# Altium footprint library FootprintsPersonals.PcbLib: 152 footprints (part 8 of 10)
Each footprint in its own frame and in the unit in brackets; x right, y up, seen from the top. Pads: shape width x height; smd on the part's side, far side on the other; paste and mask are expansions set on the pad; w line width, h text height; cw(c..) or ccw(c..) is an arc to the next point about the centre after c.
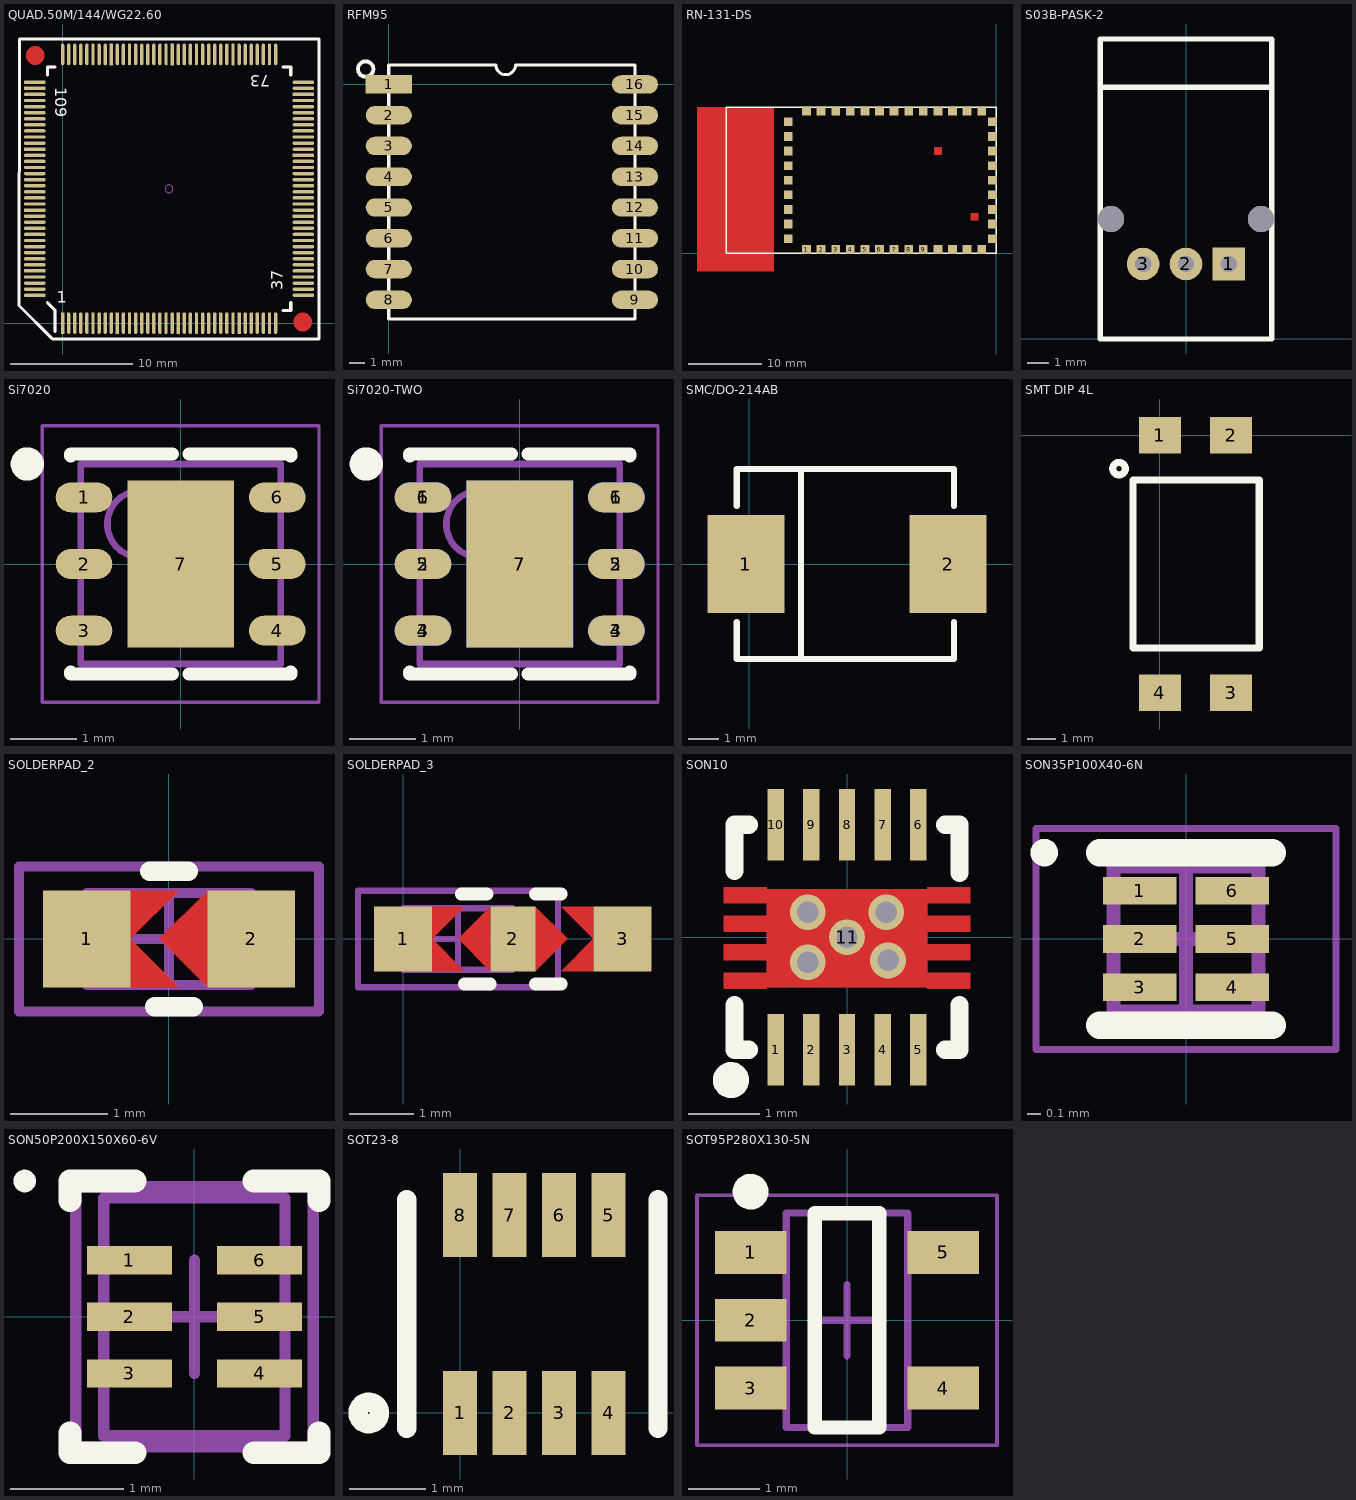
[diagram p7: the footprints below, top view; thin cyan lines are the x and y axes]

## QUAD.50M/144/WG22.60 [mil]
pads (144):
  rect 11x70 smd: 1(0,0) 10(177.3,0) 20(374.3,0) 30(571.3,0) 80(551.6,869.5) 90(354.6,869.5) 100(157.6,869.5)
  oval 11x70 smd: 2(19.7,0) 3(39.4,0) 4(59.1,0) 5(78.8,0) 6(98.5,0) 7(118.2,0) 8(137.9,0) 9(157.6,0) 11(197,0) 12(216.7,0) 13(236.4,0) 14(256.1,0) 15(275.8,0) 16(295.5,0) 17(315.2,0) 18(334.9,0) 19(354.6,0) 21(394,0) 22(413.7,0) 23(433.4,0) 24(453.1,0) 25(472.8,0) 26(492.5,0) 27(512.2,0) 28(531.9,0) 29(551.6,0) 31(591,0) 32(610.7,0) 33(630.4,0) 34(650.1,0) 35(669.8,0) 36(689.5,0) 73(689.5,869.5) 74(669.8,869.5) 75(650.1,869.5) 76(630.4,869.5) 77(610.7,869.5) 78(591,869.5) 79(571.3,869.5) 81(531.9,869.5) 82(512.2,869.5) 83(492.5,869.5) 84(472.8,869.5) 85(453.1,869.5) 86(433.4,869.5) 87(413.7,869.5) 88(394,869.5) 89(374.3,869.5) 91(334.9,869.5) 92(315.2,869.5) 93(295.5,869.5) 94(275.8,869.5) 95(256.1,869.5) 96(236.4,869.5) 97(216.7,869.5) 98(197,869.5) 99(177.3,869.5) 101(137.9,869.5) 102(118.2,869.5) 103(98.5,869.5) 104(78.8,869.5) 105(59.1,869.5) 106(39.4,869.5) 107(19.7,869.5) 108(0,869.5)
  oval 70x11 smd: 37(779.5,90) 38(779.5,109.7) 39(779.5,129.4) 41(779.5,168.8) 42(779.5,188.5) 43(779.5,208.2) 44(779.5,227.9) 45(779.5,247.6) 46(779.5,267.3) 47(779.5,287) 48(779.5,306.7) 49(779.5,326.4) 51(779.5,365.8) 52(779.5,385.5) 53(779.5,405.2) 54(779.5,424.9) 55(779.5,444.6) 56(779.5,464.3) 57(779.5,484) 58(779.5,503.7) 59(779.5,523.4) 61(779.5,562.8) 62(779.5,582.5) 63(779.5,602.2) 64(779.5,621.9) 65(779.5,641.6) 66(779.5,661.3) 67(779.5,681) 68(779.5,700.7) 69(779.5,720.4) 71(779.5,759.8) 72(779.5,779.5) 109(-90,779.5) 111(-90,740.1) 112(-90,720.4) 113(-90,700.7) 114(-90,681) 115(-90,661.3) 116(-90,641.6) 117(-90,621.9) 118(-90,602.2) 119(-90,582.5) 121(-90,543.1) 122(-90,523.4) 123(-90,503.7) 124(-90,484) 125(-90,464.3) 126(-90,444.6) 127(-90,424.9) 128(-90,405.2) 129(-90,385.5) 131(-90,346.1) 132(-90,326.4) 133(-90,306.7) 134(-90,287) 135(-90,267.3) 136(-90,247.6) 137(-90,227.9) 138(-90,208.2) 139(-90,188.5) 141(-90,149.1) 142(-90,129.4) 143(-90,109.7) 144(-90,90)
  rect 70x11 smd: 40(779.5,149.1) 50(779.5,346.1) 60(779.5,543.1) 70(779.5,740.1) 110(-90,759.8) 120(-90,562.8) 130(-90,365.8) 140(-90,168.8)
Top Layer:
  lines w60: -89,865 -89,867 ; 778,2 778,4
Top Overlay:
  lines w10: -49,66 -24,41 -24,-27.8 ; -49,803.5 -49,828.5 -24,828.5 ; 713.5,41 738.5,41 738.5,66 ; 713.5,828.5 738.5,828.5 738.5,803.5 ; -141,57 -140,919 830,919 830,-51 -33,-51 -141,57
  text "73" at 672.48,802.83 h37.5
  text "109" at -23.43,763.87 h37.5
  text "37" at 712.83,106.92 h37.5
  text ".Designator" at -63.98,-102.36 h37.5
  text "1" at -19.18,66.58 h37.5
Top Solder:
  lines w70: -89,865 -89,867 ; 778,2 778,4
Mechanical 1:
  lines w10: -49,66 -24,41 -24,-27.8 ; -49,803.5 -49,828.5 -24,828.5 ; 713.5,41 738.5,41 738.5,66 ; 713.5,828.5 738.5,828.5 738.5,803.5
  text "109" at -23.43,763.87 h37.5
  text "73" at 672.48,802.83 h37.5
  text ".Designator" at 280.15,401.58 h37.5
  text ".Comment" at 262.37,466 h37.5
  text ".Pattern" at 179.93,353.83 h22.5
  text "1" at -19.18,66.58 h37.5
  text "37" at 712.83,106.92 h37.5
Mechanical 3:
  lines w4: 332.2,434.7 cw(c344.7,434.7) 344.7,447.2 cw(c344.7,434.7) 357.2,434.7 cw(c344.7,434.7) 344.7,422.2 cw(c344.7,434.7) 332.2,434.7

## RFID_ANTENNA [mm]

## RFM95 [mm]
pads (16):
  rect 3x1.2 smd: 1(0,0)
  oval 3x1.2 smd: 2(0,-2) 3(0,-4) 4(0,-6) 5(0,-8) 6(0,-10) 7(0,-12) 8(0,-14) 9(16,-14) 10(16,-12) 11(16,-10) 12(16,-8) 13(16,-6) 14(16,-4) 15(16,-2) 16(16,0)
Top Overlay:
  circle w0.254: c-1.5,1 r0.5
  lines w0.2: 0,-15.24 0,1.27 6.965,1.27 ccw(c7.6,1.27) 8.235,1.27 16,1.27 16,-15.24 0,-15.24
3D body: height 1.8, standoff 0, extent 0,-15 16,1

## RN-131-DS [mm]
pads (44):
  rect 1.2x1.2 smd: 1(-26,0.5) 2(-24,0.5) 3(-22,0.5) 4(-20,0.5) 5(-18,0.5) 6(-16,0.5) 7(-14,0.5) 8(-12,0.5) 9(-10,0.5) 10(-8,0.5) 11(-6,0.5) 12(-4,0.5) 13(-2,0.5) 14(-0.5,2) 15(-0.5,4) 16(-0.5,6) 17(-0.5,8) 18(-0.5,10) 19(-0.5,12) 20(-0.5,14) 21(-0.5,16) 22(-0.5,18) 23(-2,19.5) 24(-4,19.5) 25(-6,19.5) 26(-8,19.5) 27(-10,19.5) 28(-12,19.5) 29(-14,19.5) 30(-16,19.5) 31(-18,19.5) 32(-20,19.5) 33(-22,19.5) 34(-24,19.5) 35(-26,19.5) 36(-28.5,18) 37(-28.5,16) 38(-28.5,14) 39(-28.5,12) 40(-28.5,10) 41(-28.5,8) 42(-28.5,6) 43(-28.5,4) 44(-28.5,2)
Top Layer:
  pour cut-out: -3.5,5.5 -2.5,5.5 -2.5,4.5 -3.5,4.5
  pour cut-out: -8.5,14.5 -7.5,14.5 -7.5,13.5 -8.5,13.5
  pour cut-out: -30.5,20 -30.5,-2.5 -41,-2.5 -41,20
Top Overlay:
  lines w0.254: -37,0 0,0 0,20 -37,20 -37,0

## S03B-PASK-2 [mil]
height 275.59
pads (3):
  rect 60x60 hole 30: 1(78.74,137.8)
  round 60 hole 30: 2(0,137.8) 3(-78.74,137.8)
via 137.8,220.47 diameter 47.24 hole 47.24
via -137.8,220.47 diameter 47.24 hole 47.24
Top Overlay:
  lines w10: -157.48,462.6 -157.48,137.8 -157.48,0 -78.74,0 78.74,0 157.48,0 157.48,137.8 157.48,462.6 ; -157.48,462.6 -78.74,462.6 78.74,462.6 157.48,462.6 ; -157.48,462.6 -157.48,551.18 157.48,551.18 ; -157.48,462.6 -157.48,462.6 ; 157.48,462.6 157.48,551.18 ; 157.48,551.18 157.48,551.18
3D body: height 255.91, standoff 0, extent -157.48,0 157.48,462.6
3D body: height 275.59, standoff 47.24, extent -157.48,462.6 157.48,551.18

## Si7020 [mm] "QFN, 6-Leads, Body 3,00x3,00mm, Pitch 1,00mm, Thermal Pad 1,60x2,50mm, IPC Medium Density"
height 1
pads (7):
  oval 0.85x0.45 smd: 1(-1.45,1) 2(-1.45,0) 3(-1.45,-1) 4(1.45,-1) 5(1.45,0) 6(1.45,1)
  rect 1.6x2.5 smd: 7(0,0)
Top Overlay:
  circle w0.25: c-2.3,1.5 r0.125
  lines w0.2: -1.65,-1.625 -1.65,-1.65 -0.125,-1.65 ; -1.65,1.625 -1.65,1.65 -0.125,1.65 ; 0.125,-1.65 1.65,-1.65 1.65,-1.625 ; 0.125,1.65 1.65,1.65 1.65,1.625
Mechanical 13:
  circle w0.1: c-0.6,0.6 r0.5
  lines w0.1: -1.5,-1.5 1.5,-1.5 1.5,1.5 -1.5,1.5 -1.5,-1.5
Mechanical 15:
  lines w0.05: -2.075,-2.075 2.075,-2.075 2.075,2.075 -2.075,2.075 -2.075,-2.075
  lines w0.1: -0.5,0 0.5,0 ; 0,-0.5 0,0.5
3D body "Si7020.step": height 1, standoff 0, extent -1.501,-1.5 1.501,1.5

## Si7020-TWO [mm] "QFN, 6-Leads, Body 3,00x3,00mm, Pitch 1,00mm, Thermal Pad 1,60x2,50mm, IPC Medium Density"
height 1
pads (14):
  oval 0.85x0.45 smd: 1(-1.45,1) 2(-1.45,0) 3(-1.45,-1) 4(1.45,-1) 5(1.45,0) 6(1.45,1)
  oval 0.85x0.45 smd far side: 1(1.45,1) 2(1.45,0) 3(1.45,-1) 4(-1.45,-1) 5(-1.45,0) 6(-1.45,1)
  rect 1.6x2.5 smd: 7(0,0)
  rect 1.6x2.5 smd far side: 7(0,0)
Top Overlay:
  circle w0.25: c-2.3,1.5 r0.125
  lines w0.2: -1.65,-1.625 -1.65,-1.65 -0.125,-1.65 ; -1.65,1.625 -1.65,1.65 -0.125,1.65 ; 0.125,-1.65 1.65,-1.65 1.65,-1.625 ; 0.125,1.65 1.65,1.65 1.65,1.625
Mechanical 13:
  circle w0.1: c-0.6,0.6 r0.5
  lines w0.1: -1.5,-1.5 -1.5,1.5 1.5,1.5 1.5,-1.5 -1.5,-1.5
Mechanical 15:
  lines w0.05: -2.075,-2.075 -2.075,2.075 2.075,2.075 2.075,-2.075 -2.075,-2.075
  lines w0.1: -0.5,0 0.5,0 ; 0,-0.5 0,0.5
3D body "Si7020.step": height 1, standoff 0, extent -1.501,-1.5 1.501,1.5

## SMC/DO-214AB [mm]
pads (2):
  rect 2.52x3.2 smd: 1(-0.1,0) 2(6.5,0)
Top Overlay:
  lines w0.2: -0.4,-1.9 -0.4,-3.1 6.7,-3.1 6.7,-1.9 ; -0.4,1.9 -0.4,3.1 6.7,3.1 6.7,1.9 ; 1.7,-3.1 1.7,3.1 ; 6.7,-1.9 6.7,-1.9 ; 6.7,1.9 6.7,1.9
3D body: height 2.62, standoff 0, extent -0.2,-2.9 6.5,2.9

## SMT DIP 4L [mm]
pads (4):
  rect 1.5x1.3 smd: 1(0,0) 2(2.54,0) 3(2.54,-9.2) 4(0,-9.2)
Top Overlay:
  circle w0.254: c-1.46,-1.2 r0.224
  lines w0.254: -0.96,-7.6 3.54,-7.6 3.54,-1.6 -0.96,-1.6 -0.96,-7.6
3D body: height 4, standoff 0, extent -0.96,-7.6 3.54,-1.6

## SOLDERPAD_2 [mm] "Chip Resistor, Body 1.6x0.8mm, IPC Medium Density"
height 0.6
pads (2):
  rect 0.9x1 smd: 1(-0.85,0) 2(0.85,0)
Top Layer:
  region: -0.4,0.5 0.1,0.5 -0.4,0 0.1,-0.5 -0.4,-0.5
  region: 0.4,0.5 -0.1,0 0.4,-0.5
Top Overlay:
  lines w0.2: -0.2,0.7 0.2,0.7 ; -0.15,-0.7 0.25,-0.7
Top Solder:
  region: -1.4,0.6 1.4,0.6 1.4,-0.6 -1.4,-0.6
Mechanical 13:
  lines w0.1: -0.85,-0.475 -0.85,0.475 0.85,0.475 0.85,-0.475 -0.85,-0.475
Mechanical 15:
  lines w0.1: -0.475,0 0.475,0 ; 0,-0.475 0,0.475 ; -1.55,-0.75 -1.55,0.75 1.55,0.75 1.55,-0.75 -1.55,-0.75
3D body: height 0.6, standoff 0, extent -0.85,-0.475 0.85,0.475

## SOLDERPAD_3 [mm] "Chip Resistor, Body 1.6x0.8mm, IPC Medium Density"
height 0.6
pads (3):
  rect 0.9x1 smd: 1(0,0) 3(3.4,0)
  rect 0.7x1 smd: 2(1.7,0)
Top Layer:
  region: 0.45,0.5 0.95,0.5 0.45,0 0.95,-0.5 0.45,-0.5
  region: 2.95,0.5 2.45,0.5 2.95,0 2.45,-0.5 2.95,-0.5
  region: 1.35,0.5 0.85,0 1.35,-0.5
  region: 2.05,0.5 2.55,0 2.05,-0.5
Top Overlay:
  lines w0.2: 0.9,0.7 1.3,0.7 ; 0.95,-0.7 1.35,-0.7 ; 2.05,-0.7 2.45,-0.7 ; 2.05,0.7 2.45,0.7
Top Solder:
  region: -0.55,0.6 3.95,0.6 3.95,-0.6 -0.55,-0.6
Mechanical 13:
  lines w0.1: 0,-0.475 0,0.475 1.7,0.475 1.7,-0.475 0,-0.475
Mechanical 15:
  lines w0.1: 0.375,0 1.325,0 ; 0.85,-0.475 0.85,0.475 ; -0.7,-0.75 -0.7,0.75 2.4,0.75 2.4,-0.75 -0.7,-0.75
3D body: height 0.6, standoff 0, extent 0,-0.475 1.7,0.475

## SON10 [mm]
pads (11):
  rect 0.23x1 smd: 1(-1,-1.575) 2(-0.5,-1.575) 3(0,-1.575) 4(0.5,-1.575) 5(1,-1.575) 6(1,1.575) 7(0.5,1.575) 8(0,1.575) 9(-0.5,1.575) 10(-1,1.575)
  round 0.5 hole 0.3: 11(0,0)
via 0.55,0.35 diameter 0.5 hole 0.3
via -0.55,0.35 diameter 0.5 hole 0.3
via -0.55,-0.35 diameter 0.5 hole 0.3
via 0.575,-0.325 diameter 0.5 hole 0.3
Top Layer:
  region: 1.125,0.7 1.125,0.475 1.725,0.475 1.725,0.7
  region: 1.125,0.3 1.125,0.075 1.725,0.075 1.725,0.3
  region: 1.125,-0.1 1.125,-0.325 1.725,-0.325 1.725,-0.1
  region: 1.125,-0.5 1.125,-0.725 1.725,-0.725 1.725,-0.5
  region: -1.125,0.7 -1.125,0.475 -1.725,0.475 -1.725,0.7
  region: -1.125,0.3 -1.125,0.075 -1.725,0.075 -1.725,0.3
  region: -1.125,-0.1 -1.125,-0.325 -1.725,-0.325 -1.725,-0.1
  region: -1.125,-0.5 -1.125,-0.725 -1.725,-0.725 -1.725,-0.5
  region: -1.125,-0.7 0,-0.7 1.125,-0.7 1.125,0.675 -1.125,0.675
Bottom Layer:
  region: 1.125,-0.7 0,-0.7 -1.125,-0.7 -1.125,0.675 1.125,0.675
Top Overlay:
  circle w0.254: c-1.625,-2 r0.125
  lines w0.254: -1.575,-0.95 -1.575,-1.575 -1.375,-1.575 ; -1.575,0.925 -1.575,1.575 -1.375,1.575 ; 1.375,-1.575 1.575,-1.575 1.575,-0.95 ; 1.375,1.575 1.575,1.575 1.575,0.9
Top Paste:
  region: 1,0.625 1,0.05 0.05,0.05 0.05,0.625
  region: 1,-0.05 1,-0.625 0.05,-0.625 0.05,-0.05
  region: -1,-0.05 -1,-0.625 -0.05,-0.625 -0.05,-0.05
  region: -1,0.625 -1,0.05 -0.05,0.05 -0.05,0.625
  region: 1.125,0.7 1.125,0.475 1.725,0.475 1.725,0.7
  region: 1.125,0.3 1.125,0.075 1.725,0.075 1.725,0.3
  region: 1.725,-0.1 1.125,-0.1 1.125,-0.325 1.725,-0.325
  region: 1.725,-0.5 1.125,-0.5 1.125,-0.725 1.725,-0.725
  region: -1.725,-0.5 -1.125,-0.5 -1.125,-0.725 -1.725,-0.725
  region: -1.725,-0.1 -1.125,-0.1 -1.125,-0.325 -1.725,-0.325
  region: -1.725,0.3 -1.125,0.3 -1.125,0.075 -1.725,0.075
  region: -1.725,0.7 -1.125,0.7 -1.125,0.475 -1.725,0.475
Top Solder:
  region: 1.025,0.65 1.025,0.025 0.025,0.025 0.025,0.65
  region: 0.025,-0.025 0.025,-0.65 1.025,-0.65 1.025,-0.025
  region: -0.025,-0.025 -0.025,-0.65 -1.025,-0.65 -1.025,-0.025
  region: -1.025,0.65 -1.025,0.025 -0.025,0.025 -0.025,0.65
  region: 1.75,0.725 1.1,0.725 1.1,0.45 1.75,0.45
  region: 1.75,0.325 1.1,0.325 1.1,0.05 1.75,0.05
  region: 1.75,-0.075 1.1,-0.075 1.1,-0.35 1.75,-0.35
  region: 1.75,-0.475 1.1,-0.475 1.1,-0.75 1.75,-0.75
  region: -1.75,-0.475 -1.1,-0.475 -1.1,-0.75 -1.75,-0.75
  region: -1.75,-0.075 -1.1,-0.075 -1.1,-0.35 -1.75,-0.35
  region: -1.75,0.325 -1.1,0.325 -1.1,0.05 -1.75,0.05
  region: -1.75,0.725 -1.1,0.725 -1.1,0.45 -1.75,0.45

## SON35P100X40-6N [mm] "SON, 6-Leads, Body 1,00x1,00mm, Pitch 0,35mm, IPC Medium Density"
height 0.4
pads (6):
  rect 0.53x0.2 smd: 1(-0.335,0.35) 2(-0.335,0) 3(-0.335,-0.35) 4(0.335,-0.35) 5(0.335,0) 6(0.335,0.35)
Top Overlay:
  circle w0.1: c-1.025,0.625 r0.05
  lines w0.2: -0.625,-0.625 0.625,-0.625 ; -0.625,0.625 0.625,0.625
Mechanical 13:
  lines w0.1: -0.525,-0.525 -0.525,0.525 0.525,0.525 0.525,-0.525 -0.525,-0.525
Mechanical 15:
  lines w0.05: -1.085,-0.8 -1.085,0.8 1.085,0.8 1.085,-0.8 -1.085,-0.8
  lines w0.1: -0.5,0 0.5,0 ; 0,-0.5 0,0.5
3D body "SON35P100X40-6N.step": height 0.4, standoff 0, extent -0.575,-0.525 0.575,0.525

## SON50P200X150X60-6V [mm]
pads (6):
  rect 0.75x0.25 smd paste-0.125 mask+0.051: 1(-0.575,0.5) 2(-0.575,0) 3(-0.575,-0.5) 4(0.575,-0.5) 5(0.575,0) 6(0.575,0.5)
Top Overlay:
  circle w0.1: c-1.5,1.2 r0.05
  lines w0.2: -1.1,-1.025 -1.1,-1.2 -0.525,-1.2 ; -1.1,1.025 -1.1,1.2 -0.525,1.2 ; 0.525,-1.2 1.1,-1.2 1.1,-1.025 ; 0.525,1.2 1.1,1.2 1.1,1.025
Top Paste:
  region: 1.1,0.625 0.25,0.625 0.25,0.375 1.1,0.375
  region: 1.1,0.125 0.25,0.125 0.25,-0.125 1.1,-0.125
  region: 1.1,-0.375 0.25,-0.375 0.25,-0.625 1.1,-0.625
  rectangle: -1.1,-0.625 -0.25,-0.375
  rectangle: -1.1,-0.125 -0.25,0.125
  rectangle: -1.1,0.375 -0.25,0.625
Mechanical 13:
  lines w0.1: -0.8,-1.05 -0.8,1.05 0.8,1.05 0.8,-1.05 -0.8,-1.05
Mechanical 15:
  lines w0.1: -0.5,0 0.5,0 ; 0,-0.5 0,0.5 ; -1.05,-1.15 -1.05,1.15 1.05,1.15 1.05,-1.15 -1.05,-1.15
3D body: height 0.6, standoff 0, extent -0.799,-1.049 0.799,1.049

## SOT23-8 [mm]
height 1.45
pads (8):
  rect 0.45x1.1 smd: 1(0,0) 2(0.65,0) 3(1.3,0) 4(1.95,0) 5(1.95,2.6) 6(1.3,2.6) 7(0.65,2.6) 8(0,2.6)
Top Overlay:
  circle w0.254: c-1.2,0 r0.141
  lines w0.254: -0.7,-0.2 -0.7,2.8 ; 2.6,-0.2 2.6,2.8

## SOT95P280X130-5N [mm] "SOT23, 5-Leads, Body 2,90x2,80mm, Pitch 0,95mm, IPC Medium Density"
height 1.3
pads (5):
  rect 1x0.6 smd: 1(-1.35,0.95) 2(-1.35,0) 3(-1.35,-0.95) 4(1.35,-0.95) 5(1.35,0.95)
Top Overlay:
  circle w0.25: c-1.35,1.8 r0.125
  lines w0.2: -0.45,-1.5 -0.45,1.5 0.45,1.5 0.45,-1.5 -0.45,-1.5
Mechanical 13:
  lines w0.1: -0.85,-1.5 0.85,-1.5 0.85,1.5 -0.85,1.5 -0.85,-1.5
Mechanical 15:
  lines w0.05: -2.1,-1.75 2.1,-1.75 2.1,1.75 -2.1,1.75 -2.1,-1.75
  lines w0.1: -0.5,0 0.5,0 ; 0,-0.5 0,0.5
3D body "SOT95P280X130-5N.step": height 1.3, standoff 0, extent -1.5,-1.5 1.5,1.5